# Altium footprint library 硅堆.PcbLib: 15 footprints
Each footprint in its own frame and in the unit in brackets; x right, y up, seen from the top. Pads: shape width x height; smd on the part's side, far side on the other; paste and mask are expansions set on the pad; w line width, h text height; cw(c..) or ccw(c..) is an arc to the next point about the centre after c.
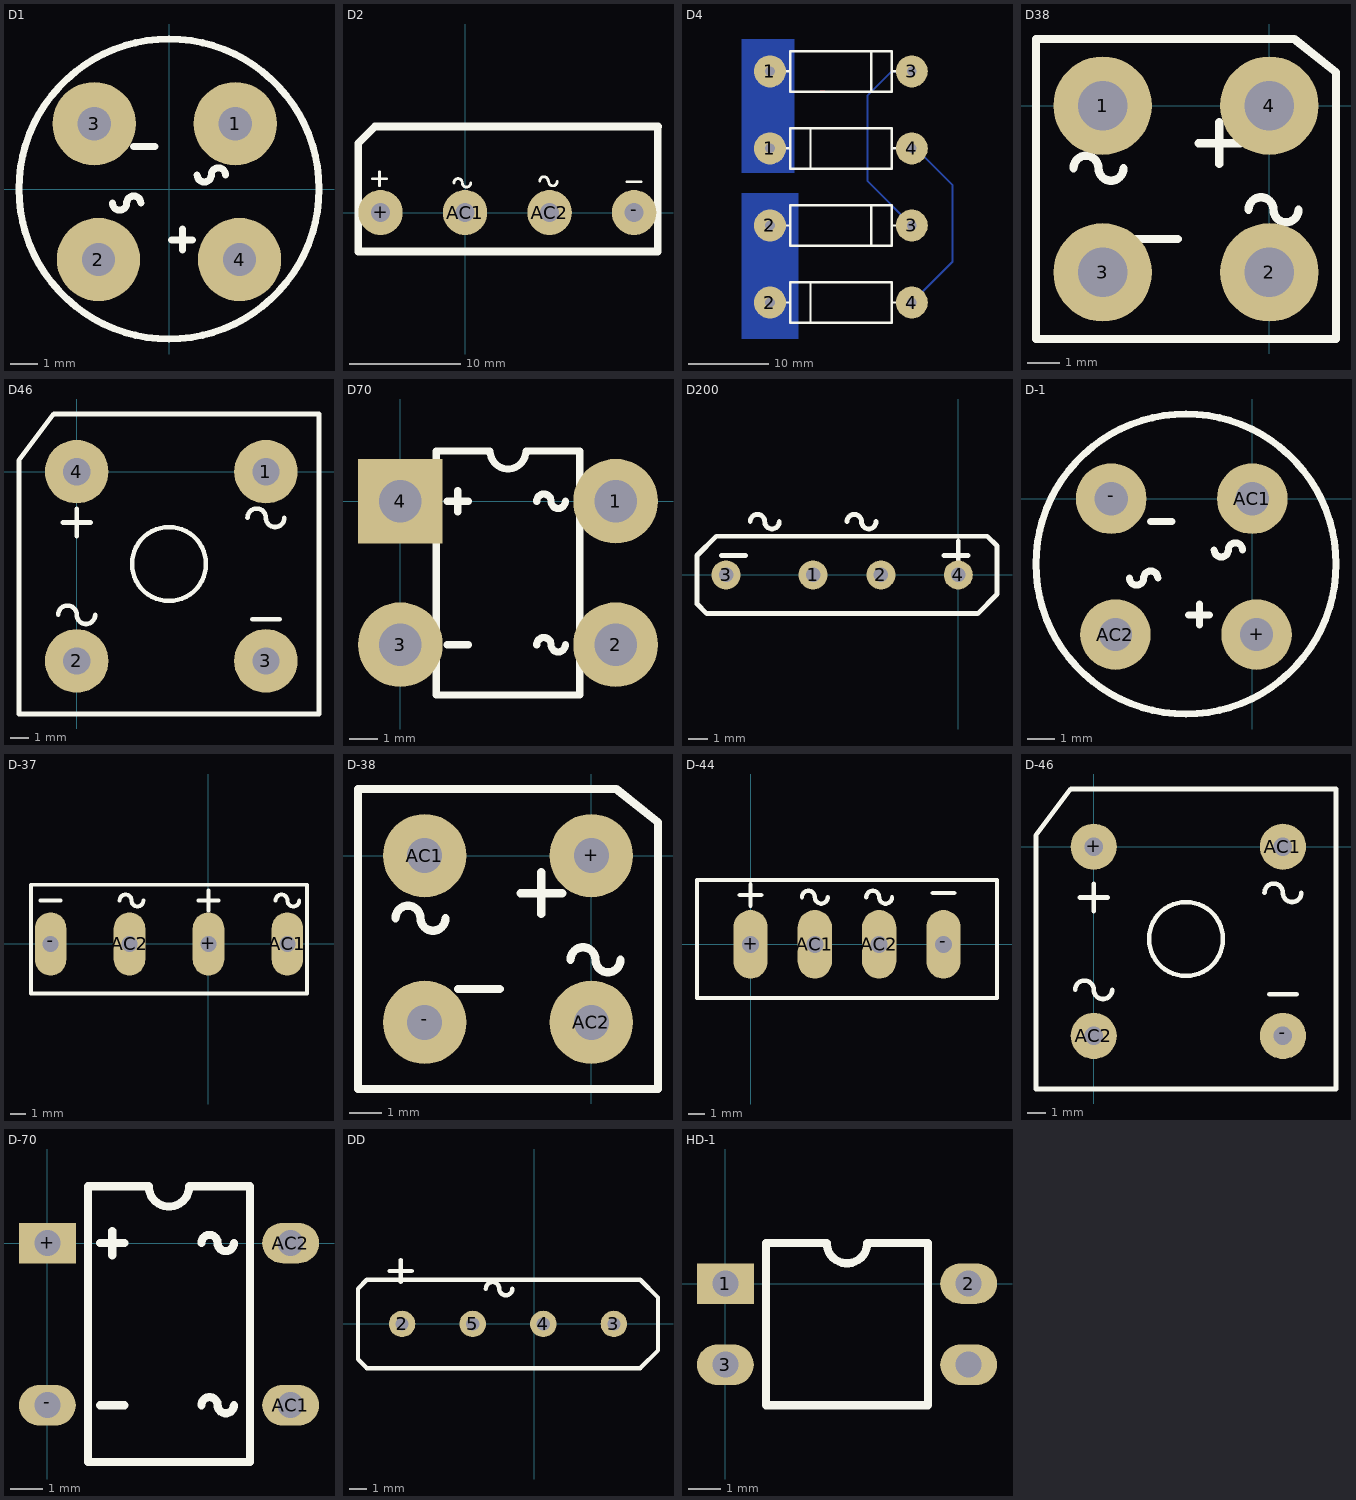
[diagram p0: the footprints below, top view; thin cyan lines are the x and y axes]

## D1 [mm]
pads (4):
  round 3 hole 1.2: 1(2.387,2.351) 2(-2.54,-2.54) 3(-2.693,2.351) 4(2.54,-2.54)
TopOverlay:
  circle w0.254: c0,0 r5.4
  lines w0.254: -2.032,-0.508 ccw(c-1.778,-0.508) -1.524,-0.508 cw(c-1.27,-0.508) -1.016,-0.508 ; -1.27,1.524 -0.508,1.524 ; 0.091,-1.833 0.853,-1.833 ; 0.491,-2.195 0.491,-1.433 ; 1.016,0.508 ccw(c1.27,0.508) 1.524,0.508 cw(c1.778,0.508) 2.032,0.508

## D2 [mm]
pads (4):
  oval 4x4.064 hole 1.7: +(-7.62,0) -(15.24,0) AC1(0,0) AC2(7.62,0)
TopOverlay:
  lines w0.254: -8.345,3.048 -7.075,3.048 ; -7.71,2.413 -7.71,3.683 ; -1.01,2.679 cw(c-0.629,2.679) -0.248,2.679 ccw(c0.133,2.679) 0.514,2.679 ; 6.731,2.846 cw(c7.112,2.846) 7.493,2.846 ; 7.543,2.792 ccw(c7.924,2.792) 8.305,2.792 ; 14.585,2.779 15.855,2.779
  lines w0.7: -9.63,-3.5 17.37,-3.5 17.37,6.25 17.37,7.725 17.395,7.75 -8.13,7.75 -9.63,6.25 -9.63,-3.5

## D4 [mm]
pads (8):
  round 4 hole 1.2: 1(-120.904,204.216) 1(-120.904,213.868) 2(-120.904,184.912) 2(-120.904,194.564) 3(-103.124,194.564) 3(-103.124,213.868) 4(-103.124,184.912) 4(-103.124,204.216)
TopLayer:
  lines w0.254: -114.554,206.756 -114.046,206.756 ; -114.554,211.328 -114.046,211.328
BottomLayer:
  rectangle: -124.46,201.168 -117.856,217.932
  rectangle: -124.46,180.34 -117.348,198.628
  lines w0.254: -120.904,184.912 -120.904,194.564 ; -120.904,204.216 -120.904,213.868 ; -103.124,184.912 -98.044,189.992 -98.044,199.644 -102.616,204.216 -103.124,204.216 ; -103.124,194.564 -108.712,200.152 -108.712,210.82 -105.664,213.868 -103.124,213.868
TopOverlay:
  lines w0.305: -119.38,184.912 -118.364,184.912 ; -119.38,194.564 -118.364,194.564 ; -119.38,204.216 -118.364,204.216 ; -119.38,213.868 -118.364,213.868 ; -115.824,182.372 -115.824,187.452 ; -115.824,201.676 -115.824,206.756 ; -108.204,192.024 -108.204,197.104 ; -108.204,211.328 -108.204,216.408 ; -105.664,184.912 -104.648,184.912 ; -105.664,194.564 -104.648,194.564 ; -105.664,204.216 -104.648,204.216 ; -105.664,213.868 -104.648,213.868 ; -118.364,182.372 -118.364,187.452 -105.664,187.452 -105.664,182.372 -118.364,182.372 ; -118.364,192.024 -105.664,192.024 -105.664,197.104 -118.364,197.104 -118.364,192.024 ; -118.364,201.676 -118.364,206.756 -105.664,206.756 -105.664,201.676 -118.364,201.676 ; -118.364,211.328 -105.664,211.328 -105.664,216.408 -118.364,216.408 -118.364,211.328

## D38 [mm]
pads (4):
  round 3 hole 1.5: 1(-5.08,0) 2(0,-5.08) 3(-5.08,-5.08) 4(0,0)
TopOverlay:
  lines w0.254: -5.969,-1.905 cw(c-5.588,-1.905) -5.207,-1.905 ccw(c-4.826,-1.905) -4.445,-1.905 ; -4.064,-4.064 -2.794,-4.064 ; -2.159,-1.143 -0.889,-1.143 ; -1.524,-1.778 -1.524,-0.508 ; -0.635,-3.175 cw(c-0.254,-3.175) 0.127,-3.175 ccw(c0.508,-3.175) 0.889,-3.175 ; -7.112,-7.112 -7.112,2.032 0.762,2.032 2.032,1.016 2.032,-7.112 -7.112,-7.112

## D46 [mm]
pads (4):
  round 3.5 hole 1.5: 1(10.414,0) 2(0,-10.414) 3(10.414,-10.414) 4(0,0)
TopOverlay:
  circle w0.254: c5.08,-5.08 r2.032
  lines w0.254: -1.016,-7.874 cw(c-0.508,-7.874) 0,-7.874 ccw(c0.508,-7.874) 1.016,-7.874 ; -0.762,-2.794 0.762,-2.794 ; 0,-3.556 0,-2.032 ; 9.398,-2.54 cw(c9.906,-2.54) 10.414,-2.54 ccw(c10.922,-2.54) 11.43,-2.54 ; 9.652,-8.128 10.414,-8.128 11.176,-8.128 ; -3.175,-13.335 -3.175,0.635 -1.27,3.175 13.335,3.175 13.335,-13.335 -3.175,-13.335

## D70 [mm]
pads (4):
  round 3 hole 1.5: 1(7.62,0) 2(7.62,-5.08) 3(0,-5.08)
  rect 3x3 hole 1.5: 4(0,0)
TopOverlay:
  lines w0.254: 1.651,-5.08 2.413,-5.08 ; 1.651,0 2.413,0 ; 2.032,-0.381 2.032,0.381 ; 4.826,-5.08 cw(c5.08,-5.08) 5.334,-5.08 ccw(c5.588,-5.08) 5.842,-5.08 ; 4.826,0 cw(c5.08,0) 5.334,0 ccw(c5.588,0) 5.842,0 ; 1.27,-6.858 1.27,1.778 3.175,1.778 ccw(c3.81,1.778) 4.445,1.778 6.35,1.778 6.35,-6.858 1.27,-6.858

## D200 [mil]
pads (4):
  round 60 hole 30: 1(-300,0) 2(-160,0) 3(-480,0) 4(0,0)
TopOverlay:
  lines w10: -490,40 -440,40 ; -430,110 cw(c-415,110) -400,110 ccw(c-385,110) -370,110 ; -230,110 cw(c-215,110) -200,110 ccw(c-185,110) -170,110 ; -30,40 20,40 ; 0,20 0,70 ; -540,-60 -540,40 -500,80 60,80 80,60 80,-40 40,-80 -520,-80 -540,-60

## D-1 [mm]
pads (4):
  round 2.54 hole 1.2: +(0.153,-4.891) -(-5.08,0) AC1(0,0) AC2(-4.927,-4.891)
TopOverlay:
  circle w0.254: c-2.387,-2.351 r5.4
  lines w0.254: -4.419,-2.859 ccw(c-4.165,-2.859) -3.911,-2.859 cw(c-3.657,-2.859) -3.403,-2.859 ; -3.657,-0.827 -2.895,-0.827 ; -2.296,-4.184 -1.534,-4.184 ; -1.896,-4.546 -1.896,-3.784 ; -1.371,-1.843 ccw(c-1.117,-1.843) -0.863,-1.843 cw(c-0.609,-1.843) -0.355,-1.843

## D-37 [mil]
pads (4):
  oval 80x160 hole 40: +(0,0) -(-400,0) AC1(200,0) AC2(-200,0)
TopOverlay:
  lines w10: -425,110 -375,110 ; -225,110 cw(c-210,110) -195,110 ccw(c-180,110) -165,110 ; -25,110 25,110 ; 0,85 0,135 ; 170,110 cw(c185,110) 200,110 ccw(c215,110) 230,110 ; -450,-125 -450,150 250,150 250,-125 -450,-125

## D-38 [mil]
pads (4):
  round 100 hole 42: +(0,0) -(-200,-200) AC1(-200,0) AC2(0,-200)
TopOverlay:
  lines w10: -235,-75 cw(c-220,-75) -205,-75 ccw(c-190,-75) -175,-75 ; -160,-160 -110,-160 ; -85,-45 -35,-45 ; -60,-70 -60,-20 ; -25,-125 cw(c-10,-125) 5,-125 ccw(c20,-125) 35,-125 ; -280,-280 80,-280 80,40 30,80 -280,80 -280,-280

## D-44 [mil]
pads (4):
  oval 80x160 hole 40: +(0,0) -(450,0) AC1(150,0) AC2(300,0)
TopOverlay:
  lines w10: -25,115 25,115 ; 0,90 0,140 ; 120,110 cw(c135,110) 150,110 ccw(c165,110) 180,110 ; 270,110 cw(c285,110) 300,110 ccw(c315,110) 330,110 ; 425,120 475,120 ; -125,-125 -125,150 575,150 575,-125 -125,-125

## D-46 [mil]
pads (4):
  round 100 hole 40: +(0,0) -(410,-410) AC1(410,0) AC2(0,-410)
TopOverlay:
  circle w10: c200,-200 r80
  lines w10: -40,-310 cw(c-20,-310) 0,-310 ccw(c20,-310) 40,-310 ; -30,-110 30,-110 ; 0,-140 0,-80 ; 370,-100 cw(c390,-100) 410,-100 ccw(c430,-100) 450,-100 ; 380,-320 410,-320 440,-320 ; -125,-525 -125,25 -50,125 525,125 525,-525 -125,-525

## D-70 [mil]
pads (4):
  rect 70x50 hole 32: +(0,0)
  oval 70x50 hole 32: -(0,-200) AC1(300,-200) AC2(300,0)
TopOverlay:
  lines w10: 65,-200 95,-200 ; 65,0 95,0 ; 80,-15 80,15 ; 190,-200 cw(c200,-200) 210,-200 ccw(c220,-200) 230,-200 ; 190,0 cw(c200,0) 210,0 ccw(c220,0) 230,0 ; 50,-270 50,70 125,70 ccw(c150,70) 175,70 250,70 250,-270 50,-270

## DD [mil]
pads (4):
  round 60 hole 30: 2(-300,0) 3(180,0) 4(20,0) 5(-140,0)
TopOverlay:
  lines w10: -328.54,120 -278.54,120 ; -303.54,95 -303.54,145 ; -110,80 cw(c-95,80) -80,80 ccw(c-65,80) -50,80 ; 160,100 210,100 ; -400,-80 -380,-100 240,-100 280,-60 280,60 240,100 -380,100 -400,80 -400,60 -400,-80

## HD-1 [mil]
pads (4):
  rect 70x50 hole 32: 1(0,0)
  oval 70x50 hole 32: 2(300,0) 3(0,-100) ""(300,-100)
TopOverlay:
  lines w10: 50,-150 50,50 125,50 ccw(c150,50) 175,50 250,50 250,-150 50,-150